# EAGLE library part NORDIC-BREAKOUT38 (library ble)
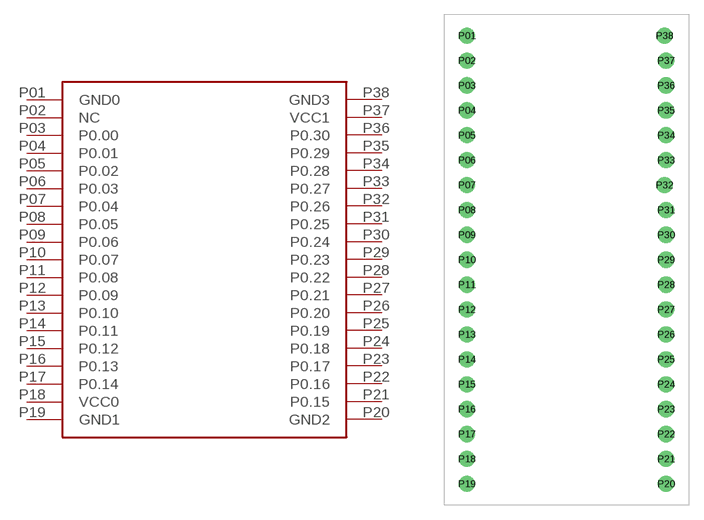
[diagram p2: symbol with the pads of NORDIC-BREAKOUT38; footprint NORDIC-BREAKOUT38]

Designator prefix -

## NORDIC-BREAKOUT38  [NORDIC-BREAKOUT38]
P01  GND0  pwr
P02  NC  nc
P03  P0.00
P04  P0.01
P05  P0.02
P06  P0.03
P07  P0.04
P08  P0.05
P09  P0.06
P10  P0.07
P11  P0.08
P12  P0.09
P13  P0.10
P14  P0.11
P15  P0.12
P16  P0.13
P17  P0.14
P18  VCC0  pwr
P19  GND1  pwr
P20  GND2  pwr
P21  P0.15
P22  P0.16
P23  P0.17
P24  P0.18
P25  P0.19
P26  P0.20
P27  P0.21
P28  P0.22
P29  P0.23
P30  P0.24
P31  P0.25
P32  P0.26
P33  P0.27
P34  P0.28
P35  P0.29
P36  P0.30
P37  VCC1  pwr
P38  GND3  pwr

## Footprint NORDIC-BREAKOUT38 (pad centres in mm)
drill 1.1: P01 -10.16,22.86; P02 -10.16,20.32; P03 -10.16,17.78; P04 -10.16,15.24; P05 -10.16,12.7; P06 -10.16,10.16; P07 -10.16,7.62; P08 -10.16,5.08; P09 -10.16,2.54; P10 -10.16,0; P11 -10.16,-2.54; P12 -10.16,-5.08; P13 -10.16,-7.62; P14 -10.16,-10.16; P15 -10.16,-12.7; P16 -10.16,-15.24; P17 -10.16,-17.78; P18 -10.16,-20.32; P19 -10.16,-22.86; P20 10.16,-22.86; P21 10.16,-20.32; P22 10.16,-17.78; P23 10.16,-15.24; P24 10.16,-12.7; P25 10.16,-10.16; P26 10.16,-7.62; P27 10.16,-5.08; P28 10.16,-2.54; P29 10.16,0; P30 10.16,2.54; P31 10.16,5.08; P32 10,7.62; P33 10.16,10.16; P34 10.16,12.7; P35 10.16,15.24; P36 10.16,17.78; P37 10.16,20.32; P38 10,22.86